# EAGLE library part SAMACSYS_PARTS_SN74HC245PWR (library goJAMMAv02)
Octal Bus Transceivers With 3-State Outputs Source: Datasheet <http://www.ti.com/lit/gpn/sn74hc245>
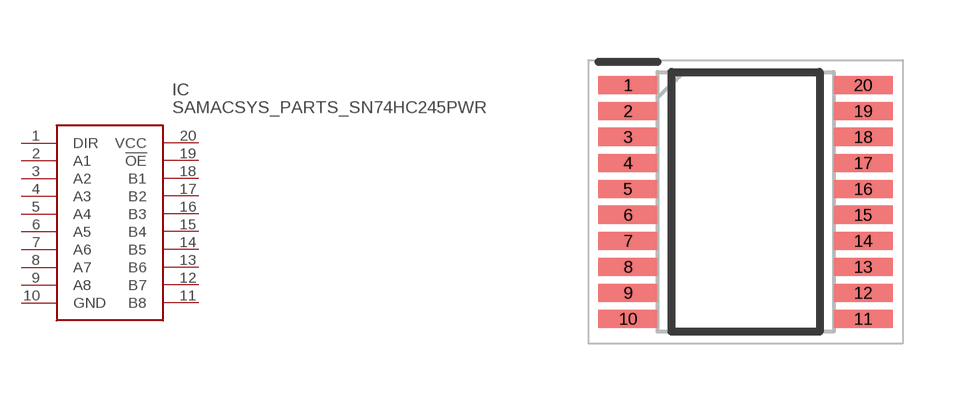
[diagram p9: symbol with the pads of SAMACSYS_PARTS_SOP65P640X120-20N; footprint SAMACSYS_PARTS_SOP65P640X120-20N]

Designator prefix IC

## SAMACSYS_PARTS_SN74HC245PWR (DESCRIPTION: Octal Bus Transceivers With 3-State Outputs; HEIGHT: 1.2mm; MANUFACTURER_NAME: Texas Instruments; MANUFACTURER_PART_NUMBER: SN74HC245PWR; MOUSER_PART_NUMBER: 595-SN74HC245PWR)  [SAMACSYS_PARTS_SOP65P640X120-20N]
1  DIR
2  A1
3  A2
4  A3
5  A4
6  A5
7  A6
8  A7
9  A8
10  GND
11  B8
12  B7
13  B6
14  B5
15  B4
16  B3
17  B2
18  B1
19  !OE
20  VCC

## Footprint SAMACSYS_PARTS_SOP65P640X120-20N (pad centres in mm)
TSSOP 20
smd 1.475 x 0.45: 1 -2.938,2.925; 2 -2.938,2.275; 3 -2.938,1.625; 4 -2.938,0.975; 5 -2.938,0.325; 6 -2.938,-0.325; 7 -2.938,-0.975; 8 -2.938,-1.625; 9 -2.938,-2.275; 10 -2.938,-2.925; 11 2.938,-2.925; 12 2.938,-2.275; 13 2.938,-1.625; 14 2.938,-0.975; 15 2.938,-0.325; 16 2.938,0.325; 17 2.938,0.975; 18 2.938,1.625; 19 2.938,2.275; 20 2.938,2.925